# Altium integrated library Allegro Amplifier Power Amplifier.IntLib: 1 symbol
Pins are listed as number, name and electrical type; pins without a type are passive.

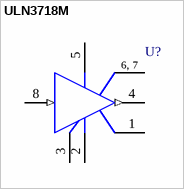
[diagram p0: symbol ULN3718M]

## ULN3718M
designator U?
Low-Voltage Audio Power Amplifier; ComponentAvailability: Obsolete; Published: 13-Oct-2000; LatestRevisionDate: 06-Jun-2005; LatestRevisionNote: Stylized 3D Model Added.; DatasheetVersion: 1995; PackageVersion: 1995; PackageReference: M8; Publisher: Altium Limited; PackageDescription: DIP; 8 Leads; Row Spacing 7.62 mm; Pitch 2.54 mm; ComponentLink1Description: Manufacturer Link; ComponentLink1URL: http://www.allegromicro.com/; ComponentLink2Description: Datasheet; ComponentLink2URL: http://www.allegromicro.com/datafile/archive/3718.pdf
footprint M8 (DIP; 8 Leads; Row Spacing 7.62 mm; Pitch 2.54 mm)
3D model M8 (DIP; 8 Leads; Row Spacing 7.62 mm; Pitch 2.54 mm)
pins: 1 DCPL, 2 PGND (power), 3 SGND (power), 4 OUT (out), 5 VCC (power), 6 NC, 7 NC, 8 IN (in)
text: 6, 7